# Altium schematic symbol library loom-rear-new.SchLib: 17 symbols
Pins are listed as number, name and electrical type; pins without a type are passive.

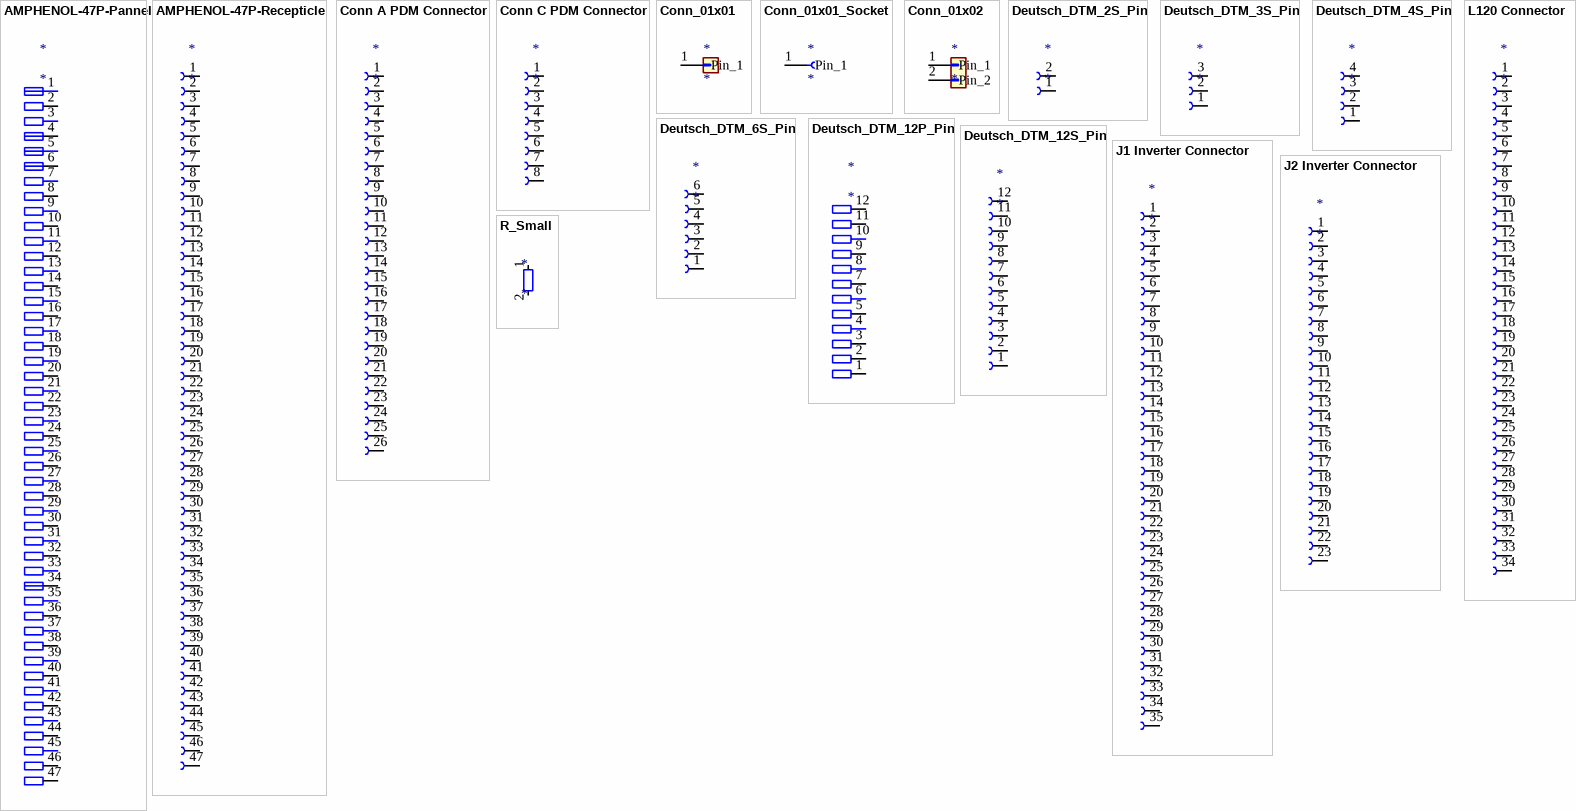
[diagram p0: symbols AMPHENOL-47P-Pannel to R_Small]

## AMPHENOL-47P-Pannel
designator *
pins: 1, 2, 3, 4, 5, 6, 7, 8, 9, 10, 11, 12, 13, 14, 15, 16, 17, 18, 19, 20, 21, 22, 23, 24, 25, 26, 27, 28, 29, 30, 31, 32, 33, 34, 35, 36, 37, 38, 39, 40, 41, 42, 43, 44, 45, 46, 47

## AMPHENOL-47P-Recepticle
designator *
pins: 1, 2, 3, 4, 5, 6, 7, 8, 9, 10, 11, 12, 13, 14, 15, 16, 17, 18, 19, 20, 21, 22, 23, 24, 25, 26, 27, 28, 29, 30, 31, 32, 33, 34, 35, 36, 37, 38, 39, 40, 41, 42, 43, 44, 45, 46, 47

## Conn A PDM Connector
designator *
pins: 1, 2, 3, 4, 5, 6, 7, 8, 9, 10, 11, 12, 13, 14, 15, 16, 17, 18, 19, 20, 21, 22, 23, 24, 25, 26

## Conn C PDM Connector
designator *
pins: 1, 2, 3, 4, 5, 6, 7, 8

## Conn_01x01
designator *
pins: 1 Pin_1

## Conn_01x01_Socket
designator *
pins: 1 Pin_1

## Conn_01x02
designator *
pins: 1 Pin_1, 2 Pin_2

## Deutsch_DTM_2S_Pin
designator *
pins: 1, 2

## Deutsch_DTM_3S_Pin
designator *
pins: 1, 2, 3

## Deutsch_DTM_4S_Pin
designator *
pins: 1, 2, 3, 4

## Deutsch_DTM_6S_Pin
designator *
pins: 1, 2, 3, 4, 5, 6

## Deutsch_DTM_12P_Pin
designator *
pins: 1, 2, 3, 4, 5, 6, 7, 8, 9, 10, 11, 12

## Deutsch_DTM_12S_Pin
designator *
pins: 1, 2, 3, 4, 5, 6, 7, 8, 9, 10, 11, 12

## J1 Inverter Connector
designator *
pins: 1, 2, 3, 4, 5, 6, 7, 8, 9, 10, 11, 12, 13, 14, 15, 16, 17, 18, 19, 20, 21, 22, 23, 24, 25, 26, 27, 28, 29, 30, 31, 32, 33, 34, 35

## J2 Inverter Connector
designator *
pins: 1, 2, 3, 4, 5, 6, 7, 8, 9, 10, 11, 12, 13, 14, 15, 16, 17, 18, 19, 20, 21, 22, 23

## L120 Connector
designator *
pins: 1, 2, 3, 4, 5, 6, 7, 8, 9, 10, 11, 12, 13, 14, 15, 16, 17, 18, 19, 20, 21, 22, 23, 24, 25, 26, 27, 28, 29, 30, 31, 32, 33, 34

## R_Small
designator *
pins: 1, 2